# Altium footprint library pcb_checked.PcbLib: 89 footprints (part 1 of 6)
Each footprint in its own frame and in the unit in brackets; x right, y up, seen from the top. Pads: shape width x height; smd on the part's side, far side on the other; paste and mask are expansions set on the pad; w line width, h text height; cw(c..) or ccw(c..) is an arc to the next point about the centre after c.
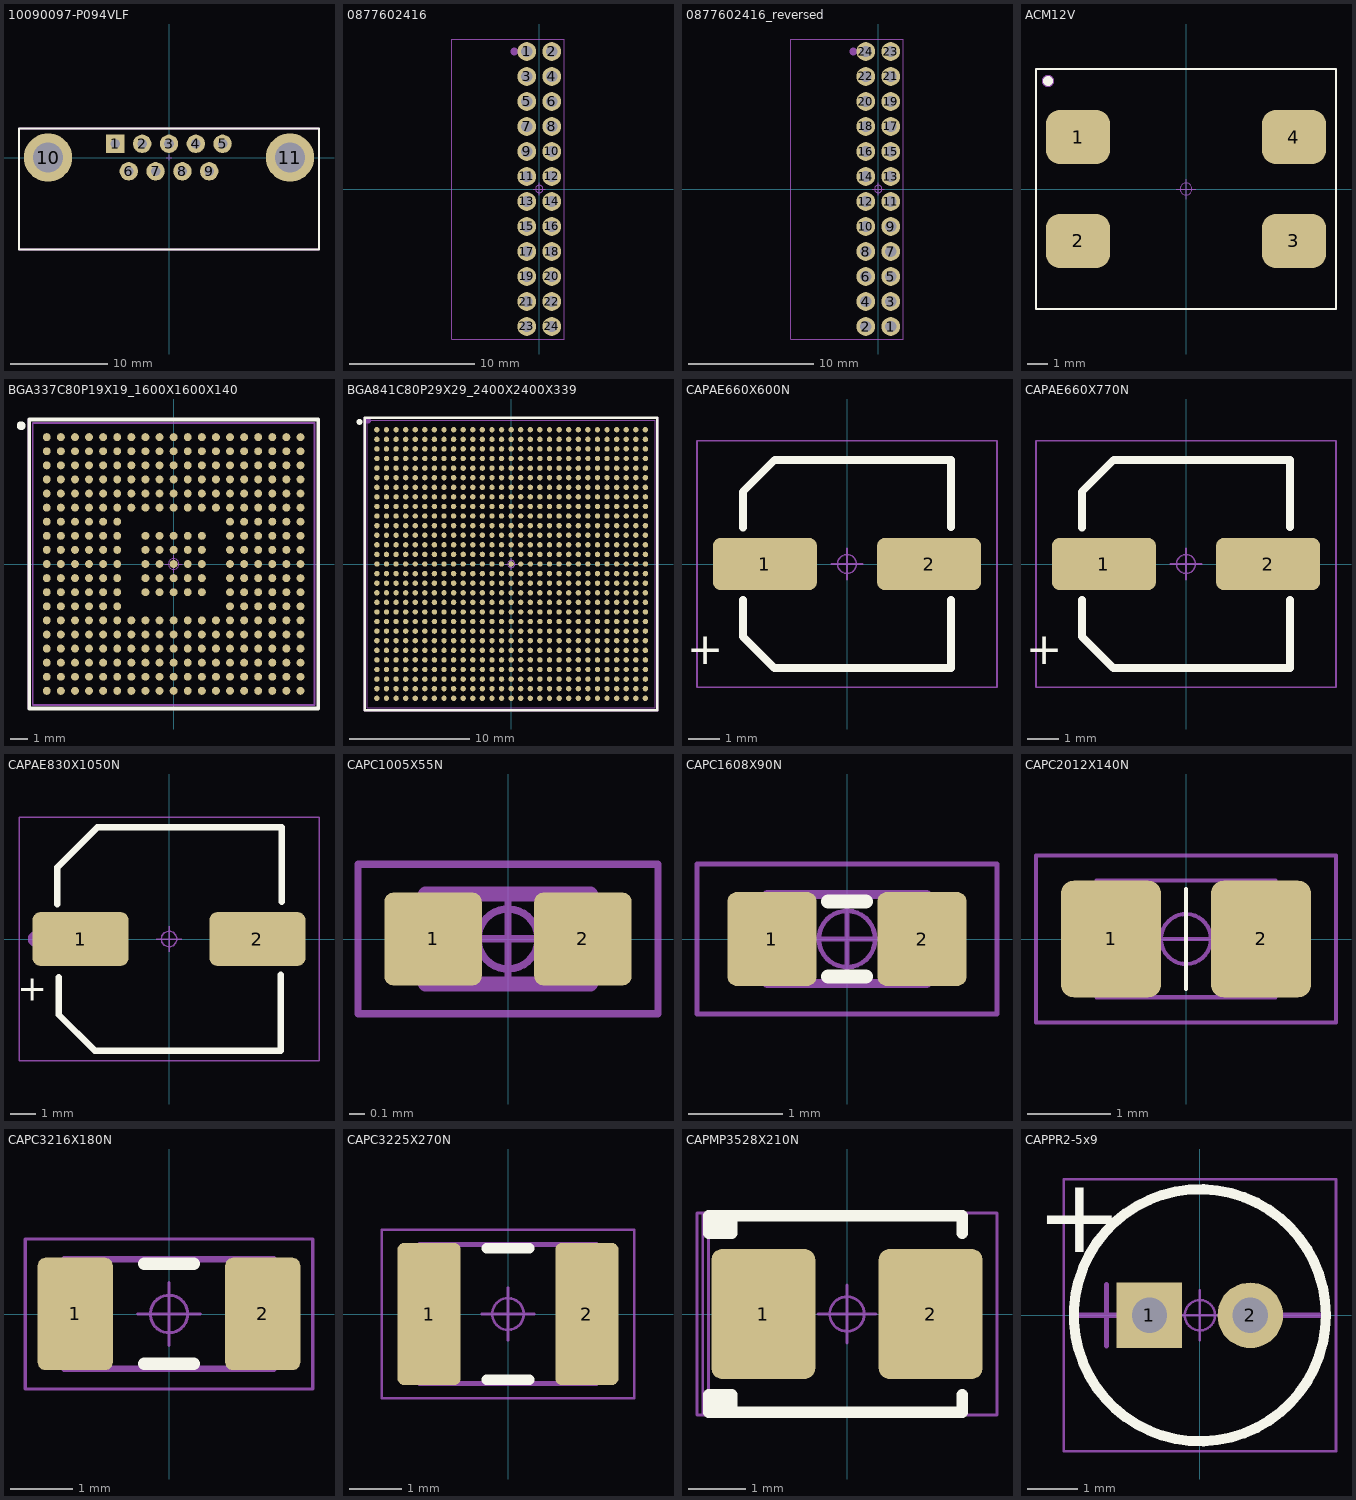
[diagram p0: the footprints below, top view; thin cyan lines are the x and y axes]

## 10090097-P094VLF [mm] "D-SUB 9 Right angle"
height 12.55
pads (11):
  rect 1.9x1.9 hole 1: 1(-5.54,1.42)
  round 1.9 hole 1: 2(-2.77,1.42) 3(0,1.42) 4(2.77,1.42) 5(5.54,1.42) 6(-4.155,-1.42) 7(-1.385,-1.42) 8(1.385,-1.42) 9(4.155,-1.42)
  round 5 hole 3.1: 10(-12.5,0) 11(12.5,0)
Top Overlay:
  lines w0.2: -15.5,-9.5 -15.5,3 15.5,3 15.5,-9.5 -15.5,-9.5
Mechanical 15:
  lines w0.1: -0.3,0 0.3,0 ; 0,-0.3 0,0.3
  lines w0.254: -15.5,-9.5 15.5,-9.5 15.5,3 -15.5,3 -15.5,-9.5
  text "pcb_edge" at -3.8,-10.6 h1.02
  text ".Designator" at -8.9,-5.3 h1.02
3D body "10090097-P09.stp": height 12.52, standoff -3.8, extent -15.42,-15.4 15.42,2.9

## 0877602416 [mm]
pads (24):
  round 1.5 hole 0.9 paste+0: 1(-1,11) 2(1,11) 3(-1,9) 4(1,9) 5(-1,7) 6(1,7) 7(-1,5) 8(1,5) 9(-1,3) 10(1,3) 11(-1,1) 12(1,1) 13(-1,-1) 14(1,-1) 15(-1,-3) 16(1,-3) 17(-1,-5) 18(1,-5) 19(-1,-7) 20(1,-7) 21(-1,-9) 22(1,-9) 23(-1,-11) 24(1,-11)
Mechanical 15:
  circle w0.05: c0,0 r0.3
  circle w0.406: c-2,11 r0.1
  lines w0.05: -0.5,0 0.5,0 ; 0,-0.5 0,0.5 ; -7,-12 -7,12 2,12 2,-12 -7,-12
  text ".Designator" at -6,-11 h1
3D body "877602416.stp": height 4.3, standoff -2.6, extent -6.45,-12 1.55,12

## 0877602416_reversed [mm]
pads (24):
  round 1.5 hole 0.9 paste+0: 1(1,-11) 2(-1,-11) 3(1,-9) 4(-1,-9) 5(1,-7) 6(-1,-7) 7(1,-5) 8(-1,-5) 9(1,-3) 10(-1,-3) 11(1,-1) 12(-1,-1) 13(1,1) 14(-1,1) 15(1,3) 16(-1,3) 17(1,5) 18(-1,5) 19(1,7) 20(-1,7) 21(1,9) 22(-1,9) 23(1,11) 24(-1,11)
Mechanical 15:
  circle w0.406: c-2,11 r0.1
  circle w0.05: c0,0 r0.3
  lines w0.05: -0.5,0 0.5,0 ; 0,-0.5 0,0.5 ; -7,-12 2,-12 2,12 -7,12 -7,-12
  text ".Designator" at -6,-11 h1
3D body "877602416.stp": height 4.3, standoff -2.6, extent -6.45,-12 1.55,12

## ACM12V [mm] "ACM12V"
height 6
pads (4):
  rrect50% 3.2x2.7 smd: 1(-5.4,2.6) 2(-5.4,-2.6) 3(5.4,-2.6) 4(5.4,2.6)
Top Overlay:
  circle w0.25: c-6.9,5.4 r0.125
  lines w0.1: -7.5,-6 7.5,-6 7.5,6 -7.5,6 -7.5,-6
Mechanical 15:
  circle w0.406: c-6.9,5.4 r0.1
  circle w0.05: c0,0 r0.3
  lines w0.05: -0.5,0 0.5,0 ; 0,-0.5 0,0.5 ; -7.5,-6 7.5,-6 7.5,6 -7.5,6 -7.5,-6
  text ".Designator" at -7.1,-5.6 h1
3D body: height 6, standoff 0, extent -6.15,-5.65 6.15,5.65

## BGA337C80P19X19_1600X1600X140 [mm] "BGA, 337-Leads, Body 16.00x16.00mmx1.40mm, Pitch 0.80mm"
height 1.4
pads (337):
  round 0.45 smd paste+0 mask+0.06: A1(-7.2,7.2) A2(-6.4,7.2) A3(-5.6,7.2) A4(-4.8,7.2) A5(-4,7.2) A6(-3.2,7.2) A7(-2.4,7.2) A8(-1.6,7.2) A9(-0.8,7.2) A10(0,7.2) A11(0.8,7.2) A12(1.6,7.2) A13(2.4,7.2) A14(3.2,7.2) A15(4,7.2) A16(4.8,7.2) A17(5.6,7.2) A18(6.4,7.2) A19(7.2,7.2) B1(-7.2,6.4) B2(-6.4,6.4) B3(-5.6,6.4) B4(-4.8,6.4) B5(-4,6.4) B6(-3.2,6.4) B7(-2.4,6.4) B8(-1.6,6.4) B9(-0.8,6.4) B10(0,6.4) B11(0.8,6.4) B12(1.6,6.4) B13(2.4,6.4) B14(3.2,6.4) B15(4,6.4) B16(4.8,6.4) B17(5.6,6.4) B18(6.4,6.4) B19(7.2,6.4) C1(-7.2,5.6) C2(-6.4,5.6) C3(-5.6,5.6) C4(-4.8,5.6) C5(-4,5.6) C6(-3.2,5.6) C7(-2.4,5.6) C8(-1.6,5.6) C9(-0.8,5.6) C10(0,5.6) C11(0.8,5.6) C12(1.6,5.6) C13(2.4,5.6) C14(3.2,5.6) C15(4,5.6) C16(4.8,5.6) C17(5.6,5.6) C18(6.4,5.6) C19(7.2,5.6) D1(-7.2,4.8) D2(-6.4,4.8) D3(-5.6,4.8) D4(-4.8,4.8) D5(-4,4.8) D6(-3.2,4.8) D7(-2.4,4.8) D8(-1.6,4.8) D9(-0.8,4.8) D10(0,4.8) D11(0.8,4.8) D12(1.6,4.8) D13(2.4,4.8) D14(3.2,4.8) D15(4,4.8) D16(4.8,4.8) D17(5.6,4.8) D18(6.4,4.8) D19(7.2,4.8) E1(-7.2,4) E2(-6.4,4) E3(-5.6,4) E4(-4.8,4) E5(-4,4) E6(-3.2,4) E7(-2.4,4) E8(-1.6,4) E9(-0.8,4) E10(0,4) E11(0.8,4) E12(1.6,4) E13(2.4,4) E14(3.2,4) E15(4,4) E16(4.8,4) E17(5.6,4) E18(6.4,4) E19(7.2,4) F1(-7.2,3.2) F2(-6.4,3.2) F3(-5.6,3.2) F4(-4.8,3.2) F5(-4,3.2) F6(-3.2,3.2) F7(-2.4,3.2) F8(-1.6,3.2) F9(-0.8,3.2) F10(0,3.2) F11(0.8,3.2) F12(1.6,3.2) F13(2.4,3.2) F14(3.2,3.2) F15(4,3.2) F16(4.8,3.2) F17(5.6,3.2) F18(6.4,3.2) F19(7.2,3.2) G1(-7.2,2.4) G2(-6.4,2.4) G3(-5.6,2.4) G4(-4.8,2.4) G5(-4,2.4) G6(-3.2,2.4) G14(3.2,2.4) G15(4,2.4) G16(4.8,2.4) G17(5.6,2.4) G18(6.4,2.4) G19(7.2,2.4) H1(-7.2,1.6) H2(-6.4,1.6) H3(-5.6,1.6) H4(-4.8,1.6) H5(-4,1.6) H6(-3.2,1.6) H8(-1.6,1.6) H9(-0.8,1.6) H10(0,1.6) H11(0.8,1.6) H12(1.6,1.6) H14(3.2,1.6) H15(4,1.6) H16(4.8,1.6) H17(5.6,1.6) H18(6.4,1.6) H19(7.2,1.6) J1(-7.2,0.8) J2(-6.4,0.8) J3(-5.6,0.8) J4(-4.8,0.8) J5(-4,0.8) J6(-3.2,0.8) J8(-1.6,0.8) J9(-0.8,0.8) J10(0,0.8) J11(0.8,0.8) J12(1.6,0.8) J14(3.2,0.8) J15(4,0.8) J16(4.8,0.8) J17(5.6,0.8) J18(6.4,0.8) J19(7.2,0.8) K1(-7.2,0) K2(-6.4,0) K3(-5.6,0) K4(-4.8,0) K5(-4,0) K6(-3.2,0) K8(-1.6,0) K9(-0.8,0) K10(0,0) K11(0.8,0) K12(1.6,0) K14(3.2,0) K15(4,0) K16(4.8,0) K17(5.6,0) K18(6.4,0) K19(7.2,0) L1(-7.2,-0.8) L2(-6.4,-0.8) L3(-5.6,-0.8) L4(-4.8,-0.8) L5(-4,-0.8) L6(-3.2,-0.8) L8(-1.6,-0.8) L9(-0.8,-0.8) L10(0,-0.8) L11(0.8,-0.8) L12(1.6,-0.8) L14(3.2,-0.8) L15(4,-0.8) L16(4.8,-0.8) L17(5.6,-0.8) L18(6.4,-0.8) L19(7.2,-0.8) M1(-7.2,-1.6) M2(-6.4,-1.6) M3(-5.6,-1.6) M4(-4.8,-1.6) M5(-4,-1.6) M6(-3.2,-1.6) M8(-1.6,-1.6) M9(-0.8,-1.6) M10(0,-1.6) M11(0.8,-1.6) M12(1.6,-1.6) M14(3.2,-1.6) M15(4,-1.6) M16(4.8,-1.6) M17(5.6,-1.6) M18(6.4,-1.6) M19(7.2,-1.6) N1(-7.2,-2.4) N2(-6.4,-2.4) N3(-5.6,-2.4) N4(-4.8,-2.4) N5(-4,-2.4) N6(-3.2,-2.4) N14(3.2,-2.4) N15(4,-2.4) N16(4.8,-2.4) N17(5.6,-2.4) N18(6.4,-2.4) N19(7.2,-2.4) P1(-7.2,-3.2) P2(-6.4,-3.2) P3(-5.6,-3.2) P4(-4.8,-3.2) P5(-4,-3.2) P6(-3.2,-3.2) P7(-2.4,-3.2) P8(-1.6,-3.2) P9(-0.8,-3.2) P10(0,-3.2) P11(0.8,-3.2) P12(1.6,-3.2) P13(2.4,-3.2) P14(3.2,-3.2) P15(4,-3.2) P16(4.8,-3.2) P17(5.6,-3.2) P18(6.4,-3.2) P19(7.2,-3.2) R1(-7.2,-4) R2(-6.4,-4) R3(-5.6,-4) R4(-4.8,-4) R5(-4,-4) R6(-3.2,-4) R7(-2.4,-4) R8(-1.6,-4) R9(-0.8,-4) R10(0,-4) R11(0.8,-4) R12(1.6,-4) R13(2.4,-4) R14(3.2,-4) R15(4,-4) R16(4.8,-4) R17(5.6,-4) R18(6.4,-4) R19(7.2,-4) T1(-7.2,-4.8) T2(-6.4,-4.8) T3(-5.6,-4.8) T4(-4.8,-4.8) T5(-4,-4.8) T6(-3.2,-4.8) T7(-2.4,-4.8) T8(-1.6,-4.8) T9(-0.8,-4.8) T10(0,-4.8) T11(0.8,-4.8) T12(1.6,-4.8) T13(2.4,-4.8) T14(3.2,-4.8) T15(4,-4.8) T16(4.8,-4.8) T17(5.6,-4.8) T18(6.4,-4.8) T19(7.2,-4.8) U1(-7.2,-5.6) U2(-6.4,-5.6) U3(-5.6,-5.6) U4(-4.8,-5.6) U5(-4,-5.6) U6(-3.2,-5.6) U7(-2.4,-5.6) U8(-1.6,-5.6) U9(-0.8,-5.6) U10(0,-5.6) U11(0.8,-5.6) U12(1.6,-5.6) U13(2.4,-5.6) U14(3.2,-5.6) U15(4,-5.6) U16(4.8,-5.6) U17(5.6,-5.6) U18(6.4,-5.6) U19(7.2,-5.6) V1(-7.2,-6.4) V2(-6.4,-6.4) V3(-5.6,-6.4) V4(-4.8,-6.4) V5(-4,-6.4) V6(-3.2,-6.4) V7(-2.4,-6.4) V8(-1.6,-6.4) V9(-0.8,-6.4) V10(0,-6.4) V11(0.8,-6.4) V12(1.6,-6.4) V13(2.4,-6.4) V14(3.2,-6.4) V15(4,-6.4) V16(4.8,-6.4) V17(5.6,-6.4) V18(6.4,-6.4) V19(7.2,-6.4) W1(-7.2,-7.2) W2(-6.4,-7.2) W3(-5.6,-7.2) W4(-4.8,-7.2) W5(-4,-7.2) W6(-3.2,-7.2) W7(-2.4,-7.2) W8(-1.6,-7.2) W9(-0.8,-7.2) W10(0,-7.2) W11(0.8,-7.2) W12(1.6,-7.2) W13(2.4,-7.2) W14(3.2,-7.2) W15(4,-7.2) W16(4.8,-7.2) W17(5.6,-7.2) W18(6.4,-7.2) W19(7.2,-7.2)
Top Overlay:
  circle w0.25: c-8.65,7.85 r0.125
  lines w0.2: -8.2,-8.2 8.2,-8.2 8.2,8.2 -8.2,8.2 -8.2,-8.2
Mechanical 13:
  lines w0.1: -8,-8 8,-8 8,8 -8,8 -8,-8
Mechanical 15:
  circle w0.05: c0,0 r0.3
  lines w0.05: -0.5,0 0.5,0 ; 0,-0.5 0,0.5 ; -8.25,-8.25 8.25,-8.25 8.25,8.25 -8.25,8.25 -8.25,-8.25
  text ".Designator" at -7.8,-7.75 h1
3D body: height 1.4, standoff 0.3, extent -8,-8 8,8

## BGA841C80P29X29_2400X2400X339 [mm] "BGA, 841-Leads, Body 24.00x24.00mmx3.39mm, Pitch 0.80mm"
height 3.39
pads (841):
  round 0.45 smd paste+0 mask+0.06: A1(-11.2,11.2) A2(-10.4,11.2) A3(-9.6,11.2) A4(-8.8,11.2) A5(-8,11.2) A6(-7.2,11.2) A7(-6.4,11.2) A8(-5.6,11.2) A9(-4.8,11.2) A10(-4,11.2) A11(-3.2,11.2) A12(-2.4,11.2) A13(-1.6,11.2) A14(-0.8,11.2) A15(0,11.2) A16(0.8,11.2) A17(1.6,11.2) A18(2.4,11.2) A19(3.2,11.2) A20(4,11.2) A21(4.8,11.2) A22(5.6,11.2) A23(6.4,11.2) A24(7.2,11.2) A25(8,11.2) A26(8.8,11.2) A27(9.6,11.2) A28(10.4,11.2) A29(11.2,11.2) AA1(-11.2,-4.8) AA2(-10.4,-4.8) AA3(-9.6,-4.8) AA4(-8.8,-4.8) AA5(-8,-4.8) AA6(-7.2,-4.8) AA7(-6.4,-4.8) AA8(-5.6,-4.8) AA9(-4.8,-4.8) AA10(-4,-4.8) AA11(-3.2,-4.8) AA12(-2.4,-4.8) AA13(-1.6,-4.8) AA14(-0.8,-4.8) AA15(0,-4.8) AA16(0.8,-4.8) AA17(1.6,-4.8) AA18(2.4,-4.8) AA19(3.2,-4.8) AA20(4,-4.8) AA21(4.8,-4.8) AA22(5.6,-4.8) AA23(6.4,-4.8) AA24(7.2,-4.8) AA25(8,-4.8) AA26(8.8,-4.8) AA27(9.6,-4.8) AA28(10.4,-4.8) AA29(11.2,-4.8) AB1(-11.2,-5.6) AB2(-10.4,-5.6) AB3(-9.6,-5.6) AB4(-8.8,-5.6) AB5(-8,-5.6) AB6(-7.2,-5.6) AB7(-6.4,-5.6) AB8(-5.6,-5.6) AB9(-4.8,-5.6) AB10(-4,-5.6) AB11(-3.2,-5.6) AB12(-2.4,-5.6) AB13(-1.6,-5.6) AB14(-0.8,-5.6) AB15(0,-5.6) AB16(0.8,-5.6) AB17(1.6,-5.6) AB18(2.4,-5.6) AB19(3.2,-5.6) AB20(4,-5.6) AB21(4.8,-5.6) AB22(5.6,-5.6) AB23(6.4,-5.6) AB24(7.2,-5.6) AB25(8,-5.6) AB26(8.8,-5.6) AB27(9.6,-5.6) AB28(10.4,-5.6) AB29(11.2,-5.6) AC1(-11.2,-6.4) AC2(-10.4,-6.4) AC3(-9.6,-6.4) AC4(-8.8,-6.4) AC5(-8,-6.4) AC6(-7.2,-6.4) AC7(-6.4,-6.4) AC8(-5.6,-6.4) AC9(-4.8,-6.4) AC10(-4,-6.4) AC11(-3.2,-6.4) AC12(-2.4,-6.4) AC13(-1.6,-6.4) AC14(-0.8,-6.4) AC15(0,-6.4) AC16(0.8,-6.4) AC17(1.6,-6.4) AC18(2.4,-6.4) AC19(3.2,-6.4) AC20(4,-6.4) AC21(4.8,-6.4) AC22(5.6,-6.4) AC23(6.4,-6.4) AC24(7.2,-6.4) AC25(8,-6.4) AC26(8.8,-6.4) AC27(9.6,-6.4) AC28(10.4,-6.4) AC29(11.2,-6.4) AD1(-11.2,-7.2) AD2(-10.4,-7.2) AD3(-9.6,-7.2) AD4(-8.8,-7.2) AD5(-8,-7.2) AD6(-7.2,-7.2) AD7(-6.4,-7.2) AD8(-5.6,-7.2) AD9(-4.8,-7.2) AD10(-4,-7.2) AD11(-3.2,-7.2) AD12(-2.4,-7.2) AD13(-1.6,-7.2) AD14(-0.8,-7.2) AD15(0,-7.2) AD16(0.8,-7.2) AD17(1.6,-7.2) AD18(2.4,-7.2) AD19(3.2,-7.2) AD20(4,-7.2) AD21(4.8,-7.2) AD22(5.6,-7.2) AD23(6.4,-7.2) AD24(7.2,-7.2) AD25(8,-7.2) AD26(8.8,-7.2) AD27(9.6,-7.2) AD28(10.4,-7.2) AD29(11.2,-7.2) AE1(-11.2,-8) AE2(-10.4,-8) AE3(-9.6,-8) AE4(-8.8,-8) AE5(-8,-8) AE6(-7.2,-8) AE7(-6.4,-8) AE8(-5.6,-8) AE9(-4.8,-8) AE10(-4,-8) AE11(-3.2,-8) AE12(-2.4,-8) AE13(-1.6,-8) AE14(-0.8,-8) AE15(0,-8) AE16(0.8,-8) AE17(1.6,-8) AE18(2.4,-8) AE19(3.2,-8) AE20(4,-8) AE21(4.8,-8) AE22(5.6,-8) AE23(6.4,-8) AE24(7.2,-8) AE25(8,-8) AE26(8.8,-8) AE27(9.6,-8) AE28(10.4,-8) AE29(11.2,-8) AF1(-11.2,-8.8) AF2(-10.4,-8.8) AF3(-9.6,-8.8) AF4(-8.8,-8.8) AF5(-8,-8.8) AF6(-7.2,-8.8) AF7(-6.4,-8.8) AF8(-5.6,-8.8) AF9(-4.8,-8.8) AF10(-4,-8.8) AF11(-3.2,-8.8) AF12(-2.4,-8.8) AF13(-1.6,-8.8) AF14(-0.8,-8.8) AF15(0,-8.8) AF16(0.8,-8.8) AF17(1.6,-8.8) AF18(2.4,-8.8) AF19(3.2,-8.8) AF20(4,-8.8) AF21(4.8,-8.8) AF22(5.6,-8.8) AF23(6.4,-8.8) AF24(7.2,-8.8) AF25(8,-8.8) AF26(8.8,-8.8) AF27(9.6,-8.8) AF28(10.4,-8.8) AF29(11.2,-8.8) AG1(-11.2,-9.6) AG2(-10.4,-9.6) AG3(-9.6,-9.6) AG4(-8.8,-9.6) AG5(-8,-9.6) AG6(-7.2,-9.6) AG7(-6.4,-9.6) AG8(-5.6,-9.6) AG9(-4.8,-9.6) AG10(-4,-9.6) AG11(-3.2,-9.6) AG12(-2.4,-9.6) AG13(-1.6,-9.6) AG14(-0.8,-9.6) AG15(0,-9.6) AG16(0.8,-9.6) AG17(1.6,-9.6) AG18(2.4,-9.6) AG19(3.2,-9.6) AG20(4,-9.6) AG21(4.8,-9.6) AG22(5.6,-9.6) AG23(6.4,-9.6) AG24(7.2,-9.6) AG25(8,-9.6) AG26(8.8,-9.6) AG27(9.6,-9.6) AG28(10.4,-9.6) AG29(11.2,-9.6) AH1(-11.2,-10.4) AH2(-10.4,-10.4) AH3(-9.6,-10.4) AH4(-8.8,-10.4) AH5(-8,-10.4) AH6(-7.2,-10.4) AH7(-6.4,-10.4) AH8(-5.6,-10.4) AH9(-4.8,-10.4) AH10(-4,-10.4) AH11(-3.2,-10.4) AH12(-2.4,-10.4) AH13(-1.6,-10.4) AH14(-0.8,-10.4) AH15(0,-10.4) AH16(0.8,-10.4) AH17(1.6,-10.4) AH18(2.4,-10.4) AH19(3.2,-10.4) AH20(4,-10.4) AH21(4.8,-10.4) AH22(5.6,-10.4) AH23(6.4,-10.4) AH24(7.2,-10.4) AH25(8,-10.4) AH26(8.8,-10.4) AH27(9.6,-10.4) AH28(10.4,-10.4) AH29(11.2,-10.4) AJ1(-11.2,-11.2) AJ2(-10.4,-11.2) AJ3(-9.6,-11.2) AJ4(-8.8,-11.2) AJ5(-8,-11.2) AJ6(-7.2,-11.2) AJ7(-6.4,-11.2) AJ8(-5.6,-11.2) AJ9(-4.8,-11.2) AJ10(-4,-11.2) AJ11(-3.2,-11.2) AJ12(-2.4,-11.2) AJ13(-1.6,-11.2) AJ14(-0.8,-11.2) AJ15(0,-11.2) AJ16(0.8,-11.2) AJ17(1.6,-11.2) AJ18(2.4,-11.2) AJ19(3.2,-11.2) AJ20(4,-11.2) AJ21(4.8,-11.2) AJ22(5.6,-11.2) AJ23(6.4,-11.2) AJ24(7.2,-11.2) AJ25(8,-11.2) AJ26(8.8,-11.2) AJ27(9.6,-11.2) AJ28(10.4,-11.2) AJ29(11.2,-11.2) B1(-11.2,10.4) B2(-10.4,10.4) B3(-9.6,10.4) B4(-8.8,10.4) B5(-8,10.4) B6(-7.2,10.4) B7(-6.4,10.4) B8(-5.6,10.4) B9(-4.8,10.4) B10(-4,10.4) B11(-3.2,10.4) B12(-2.4,10.4) B13(-1.6,10.4) B14(-0.8,10.4) B15(0,10.4) B16(0.8,10.4) B17(1.6,10.4) B18(2.4,10.4) B19(3.2,10.4) B20(4,10.4) B21(4.8,10.4) B22(5.6,10.4) B23(6.4,10.4) B24(7.2,10.4) B25(8,10.4) B26(8.8,10.4) B27(9.6,10.4) B28(10.4,10.4) B29(11.2,10.4) C1(-11.2,9.6) C2(-10.4,9.6) C3(-9.6,9.6) C4(-8.8,9.6) C5(-8,9.6) C6(-7.2,9.6) C7(-6.4,9.6) C8(-5.6,9.6) C9(-4.8,9.6) C10(-4,9.6) C11(-3.2,9.6) C12(-2.4,9.6) C13(-1.6,9.6) C14(-0.8,9.6) C15(0,9.6) C16(0.8,9.6) C17(1.6,9.6) C18(2.4,9.6) C19(3.2,9.6) C20(4,9.6) C21(4.8,9.6) C22(5.6,9.6) C23(6.4,9.6) C24(7.2,9.6) C25(8,9.6) C26(8.8,9.6) C27(9.6,9.6) C28(10.4,9.6) C29(11.2,9.6) D1(-11.2,8.8) D2(-10.4,8.8) D3(-9.6,8.8) D4(-8.8,8.8) D5(-8,8.8) D6(-7.2,8.8) D7(-6.4,8.8) D8(-5.6,8.8) D9(-4.8,8.8) D10(-4,8.8) D11(-3.2,8.8) D12(-2.4,8.8) D13(-1.6,8.8) D14(-0.8,8.8) D15(0,8.8) D16(0.8,8.8) D17(1.6,8.8) D18(2.4,8.8) D19(3.2,8.8) D20(4,8.8) D21(4.8,8.8) D22(5.6,8.8) D23(6.4,8.8) D24(7.2,8.8) D25(8,8.8) D26(8.8,8.8) D27(9.6,8.8) D28(10.4,8.8) D29(11.2,8.8) E1(-11.2,8) E2(-10.4,8) E3(-9.6,8) E4(-8.8,8) E5(-8,8) E6(-7.2,8) E7(-6.4,8) E8(-5.6,8) E9(-4.8,8) E10(-4,8) E11(-3.2,8) E12(-2.4,8) E13(-1.6,8) E14(-0.8,8) E15(0,8) E16(0.8,8) E17(1.6,8) E18(2.4,8) E19(3.2,8) E20(4,8) E21(4.8,8) E22(5.6,8) E23(6.4,8) E24(7.2,8) E25(8,8) E26(8.8,8) E27(9.6,8) E28(10.4,8) E29(11.2,8) F1(-11.2,7.2) F2(-10.4,7.2) F3(-9.6,7.2) F4(-8.8,7.2) F5(-8,7.2) F6(-7.2,7.2) F7(-6.4,7.2) F8(-5.6,7.2) F9(-4.8,7.2) F10(-4,7.2) F11(-3.2,7.2) F12(-2.4,7.2) F13(-1.6,7.2) F14(-0.8,7.2) F15(0,7.2) F16(0.8,7.2) F17(1.6,7.2) F18(2.4,7.2) F19(3.2,7.2) F20(4,7.2) F21(4.8,7.2) F22(5.6,7.2) F23(6.4,7.2) F24(7.2,7.2) F25(8,7.2) F26(8.8,7.2) F27(9.6,7.2) F28(10.4,7.2) F29(11.2,7.2) G1(-11.2,6.4) G2(-10.4,6.4) G3(-9.6,6.4) G4(-8.8,6.4) G5(-8,6.4) G6(-7.2,6.4) G7(-6.4,6.4) G8(-5.6,6.4) G9(-4.8,6.4) G10(-4,6.4) G11(-3.2,6.4) G12(-2.4,6.4) G13(-1.6,6.4) G14(-0.8,6.4) G15(0,6.4) G16(0.8,6.4) G17(1.6,6.4) G18(2.4,6.4) G19(3.2,6.4) G20(4,6.4) G21(4.8,6.4) G22(5.6,6.4) G23(6.4,6.4) G24(7.2,6.4) G25(8,6.4) G26(8.8,6.4) G27(9.6,6.4) G28(10.4,6.4) G29(11.2,6.4) H1(-11.2,5.6) H2(-10.4,5.6) H3(-9.6,5.6) H4(-8.8,5.6) H5(-8,5.6) H6(-7.2,5.6) H7(-6.4,5.6) H8(-5.6,5.6) H9(-4.8,5.6) H10(-4,5.6) H11(-3.2,5.6) H12(-2.4,5.6) H13(-1.6,5.6) H14(-0.8,5.6) H15(0,5.6) H16(0.8,5.6) H17(1.6,5.6) H18(2.4,5.6) H19(3.2,5.6) H20(4,5.6) H21(4.8,5.6) H22(5.6,5.6) H23(6.4,5.6) H24(7.2,5.6) H25(8,5.6) H26(8.8,5.6) H27(9.6,5.6) H28(10.4,5.6) H29(11.2,5.6) J1(-11.2,4.8) J2(-10.4,4.8) J3(-9.6,4.8) J4(-8.8,4.8) J5(-8,4.8) J6(-7.2,4.8) J7(-6.4,4.8) J8(-5.6,4.8) J9(-4.8,4.8) J10(-4,4.8) J11(-3.2,4.8) J12(-2.4,4.8) J13(-1.6,4.8) J14(-0.8,4.8) J15(0,4.8) J16(0.8,4.8) J17(1.6,4.8) J18(2.4,4.8) J19(3.2,4.8) J20(4,4.8) J21(4.8,4.8) J22(5.6,4.8) J23(6.4,4.8) J24(7.2,4.8) J25(8,4.8) J26(8.8,4.8) J27(9.6,4.8) J28(10.4,4.8) J29(11.2,4.8) K1(-11.2,4) K2(-10.4,4) K3(-9.6,4) K4(-8.8,4) K5(-8,4) K6(-7.2,4) K7(-6.4,4) K8(-5.6,4) K9(-4.8,4) K10(-4,4) K11(-3.2,4) K12(-2.4,4) K13(-1.6,4) K14(-0.8,4) K15(0,4) K16(0.8,4) K17(1.6,4) K18(2.4,4) K19(3.2,4) K20(4,4) K21(4.8,4) K22(5.6,4) K23(6.4,4) K24(7.2,4) K25(8,4) K26(8.8,4) K27(9.6,4) K28(10.4,4) K29(11.2,4) L1(-11.2,3.2) L2(-10.4,3.2) L3(-9.6,3.2) L4(-8.8,3.2) L5(-8,3.2) L6(-7.2,3.2) L7(-6.4,3.2) L8(-5.6,3.2) L9(-4.8,3.2) L10(-4,3.2) L11(-3.2,3.2) L12(-2.4,3.2) L13(-1.6,3.2) L14(-0.8,3.2) L15(0,3.2) L16(0.8,3.2) L17(1.6,3.2) L18(2.4,3.2) L19(3.2,3.2) L20(4,3.2) L21(4.8,3.2) L22(5.6,3.2) L23(6.4,3.2) L24(7.2,3.2) L25(8,3.2) L26(8.8,3.2) L27(9.6,3.2) L28(10.4,3.2) L29(11.2,3.2) M1(-11.2,2.4) M2(-10.4,2.4) M3(-9.6,2.4) M4(-8.8,2.4) M5(-8,2.4) M6(-7.2,2.4) M7(-6.4,2.4) M8(-5.6,2.4) M9(-4.8,2.4) M10(-4,2.4) M11(-3.2,2.4) M12(-2.4,2.4) M13(-1.6,2.4) M14(-0.8,2.4) M15(0,2.4) M16(0.8,2.4) M17(1.6,2.4) M18(2.4,2.4) M19(3.2,2.4) M20(4,2.4) M21(4.8,2.4) M22(5.6,2.4) M23(6.4,2.4) M24(7.2,2.4) M25(8,2.4) M26(8.8,2.4) M27(9.6,2.4) M28(10.4,2.4) M29(11.2,2.4) N1(-11.2,1.6) N2(-10.4,1.6) N3(-9.6,1.6) N4(-8.8,1.6) N5(-8,1.6) N6(-7.2,1.6) N7(-6.4,1.6) N8(-5.6,1.6) N9(-4.8,1.6) N10(-4,1.6) N11(-3.2,1.6) N12(-2.4,1.6) N13(-1.6,1.6) N14(-0.8,1.6) N15(0,1.6) N16(0.8,1.6) N17(1.6,1.6) N18(2.4,1.6) N19(3.2,1.6) N20(4,1.6) N21(4.8,1.6) N22(5.6,1.6) N23(6.4,1.6) N24(7.2,1.6) N25(8,1.6) N26(8.8,1.6) N27(9.6,1.6) N28(10.4,1.6) N29(11.2,1.6) P1(-11.2,0.8) P2(-10.4,0.8) P3(-9.6,0.8) P4(-8.8,0.8) P5(-8,0.8) P6(-7.2,0.8) P7(-6.4,0.8) P8(-5.6,0.8) P9(-4.8,0.8) P10(-4,0.8) P11(-3.2,0.8) P12(-2.4,0.8) P13(-1.6,0.8) P14(-0.8,0.8) P15(0,0.8) P16(0.8,0.8) P17(1.6,0.8) P18(2.4,0.8) P19(3.2,0.8) P20(4,0.8) P21(4.8,0.8) P22(5.6,0.8) P23(6.4,0.8) P24(7.2,0.8) P25(8,0.8) P26(8.8,0.8) P27(9.6,0.8) P28(10.4,0.8) P29(11.2,0.8) R1(-11.2,0) R2(-10.4,0) R3(-9.6,0) R4(-8.8,0) R5(-8,0) R6(-7.2,0) R7(-6.4,0) R8(-5.6,0) R9(-4.8,0) R10(-4,0) R11(-3.2,0) R12(-2.4,0) R13(-1.6,0) R14(-0.8,0) R15(0,0) R16(0.8,0) R17(1.6,0) R18(2.4,0) R19(3.2,0) R20(4,0) R21(4.8,0) R22(5.6,0) R23(6.4,0) R24(7.2,0) R25(8,0) R26(8.8,0) R27(9.6,0) R28(10.4,0) R29(11.2,0) T1(-11.2,-0.8) T2(-10.4,-0.8) T3(-9.6,-0.8) T4(-8.8,-0.8) T5(-8,-0.8) T6(-7.2,-0.8) T7(-6.4,-0.8) T8(-5.6,-0.8) T9(-4.8,-0.8) T10(-4,-0.8) T11(-3.2,-0.8) T12(-2.4,-0.8) T13(-1.6,-0.8) T14(-0.8,-0.8) T15(0,-0.8) T16(0.8,-0.8) T17(1.6,-0.8) T18(2.4,-0.8) T19(3.2,-0.8) T20(4,-0.8) T21(4.8,-0.8) T22(5.6,-0.8) T23(6.4,-0.8) T24(7.2,-0.8) T25(8,-0.8) T26(8.8,-0.8) T27(9.6,-0.8) T28(10.4,-0.8) T29(11.2,-0.8) U1(-11.2,-1.6) U2(-10.4,-1.6) U3(-9.6,-1.6) U4(-8.8,-1.6) U5(-8,-1.6) U6(-7.2,-1.6) U7(-6.4,-1.6) U8(-5.6,-1.6) U9(-4.8,-1.6) U10(-4,-1.6) U11(-3.2,-1.6) U12(-2.4,-1.6) U13(-1.6,-1.6) U14(-0.8,-1.6) U15(0,-1.6) U16(0.8,-1.6) U17(1.6,-1.6) U18(2.4,-1.6) U19(3.2,-1.6) U20(4,-1.6) U21(4.8,-1.6) U22(5.6,-1.6) U23(6.4,-1.6) U24(7.2,-1.6) U25(8,-1.6) U26(8.8,-1.6) U27(9.6,-1.6) U28(10.4,-1.6) U29(11.2,-1.6) V1(-11.2,-2.4) V2(-10.4,-2.4) V3(-9.6,-2.4) V4(-8.8,-2.4) V5(-8,-2.4) V6(-7.2,-2.4) V7(-6.4,-2.4) V8(-5.6,-2.4) V9(-4.8,-2.4) V10(-4,-2.4) V11(-3.2,-2.4) V12(-2.4,-2.4) V13(-1.6,-2.4) V14(-0.8,-2.4) V15(0,-2.4) V16(0.8,-2.4) V17(1.6,-2.4) V18(2.4,-2.4) V19(3.2,-2.4) V20(4,-2.4) V21(4.8,-2.4) V22(5.6,-2.4) V23(6.4,-2.4) V24(7.2,-2.4) V25(8,-2.4) V26(8.8,-2.4) V27(9.6,-2.4) V28(10.4,-2.4) V29(11.2,-2.4) W1(-11.2,-3.2) W2(-10.4,-3.2) W3(-9.6,-3.2) W4(-8.8,-3.2) W5(-8,-3.2) W6(-7.2,-3.2) W7(-6.4,-3.2) W8(-5.6,-3.2) W9(-4.8,-3.2) W10(-4,-3.2) W11(-3.2,-3.2) W12(-2.4,-3.2) W13(-1.6,-3.2) W14(-0.8,-3.2) W15(0,-3.2) W16(0.8,-3.2) W17(1.6,-3.2) W18(2.4,-3.2) W19(3.2,-3.2) W20(4,-3.2) W21(4.8,-3.2) W22(5.6,-3.2) W23(6.4,-3.2) W24(7.2,-3.2) W25(8,-3.2) W26(8.8,-3.2) W27(9.6,-3.2) W28(10.4,-3.2) W29(11.2,-3.2) Y1(-11.2,-4) Y2(-10.4,-4) Y3(-9.6,-4) Y4(-8.8,-4) Y5(-8,-4) Y6(-7.2,-4) Y7(-6.4,-4) Y8(-5.6,-4) Y9(-4.8,-4) Y10(-4,-4) Y11(-3.2,-4) Y12(-2.4,-4) Y13(-1.6,-4) Y14(-0.8,-4) Y15(0,-4) Y16(0.8,-4) Y17(1.6,-4) Y18(2.4,-4) Y19(3.2,-4) Y20(4,-4) Y21(4.8,-4) Y22(5.6,-4) Y23(6.4,-4) Y24(7.2,-4) Y25(8,-4) Y26(8.8,-4) Y27(9.6,-4) Y28(10.4,-4) Y29(11.2,-4)
Top Overlay:
  circle w0.25: c-12.65,11.85 r0.125
  lines w0.2: -12.2,-12.2 12.2,-12.2 12.2,12.2 -12.2,12.2 -12.2,-12.2
Mechanical 13:
  lines w0.1: -12,-12 12,-12 12,12 -12,12 -12,-12
Mechanical 15:
  circle w0.25: c-11.95,11.95 r0.125
  circle w0.05: c0,0 r0.3
  lines w0.05: -0.5,0 0.5,0 ; 0,-0.5 0,0.5 ; -12.25,-12.25 12.25,-12.25 12.25,12.25 -12.25,12.25 -12.25,-12.25
  text ".Designator" at -11.95,-11.8 h1
3D body: height 3.39, standoff 0.3, extent -12,-12 12,12

## CAPAE660X600N [mm] "Aluminium Electrolytic Capacitor, 6.6x6.6x6.0mm"
height 6
pads (2):
  rrect30% 3.3x1.65 smd: 1(-2.6,0) 2(2.6,0)
Top Overlay:
  lines w0.254: -3.3,-1.143 -3.3,-2.3 -2.3,-3.3 -2.286,-3.3 3.3,-3.3 3.3,-1.143 ; -3.3,1.15 -3.3,2.286 -2.286,3.3 3.3,3.3 3.3,1.175
  text "+" at -3.9,-2.3 h1.02
Mechanical 15:
  circle w0.406: c-3.65,0 r0.1
  circle w0.05: c0,0 r0.3
  lines w0.05: -0.5,0 0.5,0 ; 0,-0.5 0,0.5 ; -4.75,-3.9 -4.75,3.9 4.75,3.9 4.75,-3.9 -4.75,-3.9
  text ".Designator" at -4.35,-3.75 h1
3D body: height 1, standoff 0, extent -3.3,-3.3 3.3,3.3
3D body: height 6, standoff 1, extent -3.124,-3.147 3.176,3.147

## CAPAE660X770N [mm] "Aluminium Electrolytic Capacitor, 6.6x6.6x7.7mm"
height 7.7
pads (2):
  rrect30% 3.3x1.65 smd: 1(-2.6,0) 2(2.6,0)
Top Overlay:
  lines w0.254: -3.3,-1.143 -3.3,-2.3 -2.3,-3.3 -2.286,-3.3 3.3,-3.3 3.3,-1.143 ; -3.3,1.15 -3.3,2.286 -2.286,3.3 3.3,3.3 3.3,1.175
  text "+" at -3.9,-2.3 h1.02
Mechanical 15:
  circle w0.05: c0,0 r0.3
  circle w0.406: c-3.65,0 r0.1
  lines w0.05: -0.5,0 0.5,0 ; 0,-0.5 0,0.5 ; -4.75,-3.9 4.75,-3.9 4.75,3.9 -4.75,3.9 -4.75,-3.9
  text ".Designator" at -4.35,-3.75 h1
3D body: height 8.7, standoff 1, extent -3.124,-3.149 3.176,3.149
3D body: height 1, standoff 0, extent -3.3,-3.3 3.3,3.3

## CAPAE830X1050N [mm] "Aluminium Electrolytic Capacitor, 8.3x8.3x10.5mm"
height 10.5
pads (2):
  rrect30% 3.75x2.1 smd: 1(-3.45,0) 2(3.45,0)
Top Overlay:
  lines w0.254: -4.35,1.35 -4.35,2.8 -2.8,4.35 4.4,4.35 4.4,1.45 ; -4.3,-1.5 -4.3,-2.95 -2.9,-4.35 -1.236,-4.35 4.35,-4.35 4.35,-1.4
  text "+" at -4.75,-1.55 h1.02
Mechanical 15:
  circle w0.05: c0,0 r0.3
  circle w0.406: c-5.2,0 r0.1
  lines w0.05: -0.5,0 0.5,0 ; 0,-0.5 0,0.5 ; -5.85,-4.75 5.85,-4.75 5.85,4.75 -5.85,4.75 -5.85,-4.75
  text ".Designator" at -5.6,-4.45 h1
3D body: height 12.5, standoff 2, extent -3.974,-3.999 4.026,3.999
3D body: height 2, standoff 0, extent -4.15,-4.15 4.15,4.15

## CAPC1005X55N [mm] "Chip Capacitor, Body 1.1x0.5mm, IPC Medium Density"
height 0.4
pads (2):
  rrect20% 0.65x0.62 smd: 1(-0.5,0) 2(0.5,0)
Mechanical 13:
  lines w0.1: -0.55,-0.3 -0.55,0.3 0.55,0.3 0.55,-0.3 -0.55,-0.3
Mechanical 15:
  circle w0.05: c0,0 r0.2
  lines w0.05: -0.3,0 0.3,0 ; 0,-0.3 0,0.3 ; -1,-0.5 -1,0.5 1,0.5 1,-0.5 -1,-0.5
  text ".Designator" at -0.9,-0.4 h0.75
3D body: height 0.4, standoff 0, extent -0.55,-0.3 0.55,0.3

## CAPC1608X90N [mm] "Chip Capacitor, Body 1.6x0.8mm, IPC Medium Density"
height 0.9
pads (2):
  rrect20% 0.95x1 smd: 1(-0.8,0) 2(0.8,0)
Top Overlay:
  lines w0.15: -0.2,-0.4 0.2,-0.4 ; -0.2,0.4 0.2,0.4
Mechanical 13:
  lines w0.1: -0.85,-0.475 0.85,-0.475 0.85,0.475 -0.85,0.475 -0.85,-0.475
Mechanical 15:
  circle w0.05: c0,0 r0.3
  lines w0.05: -0.475,0 0.475,0 ; 0,-0.475 0,0.475 ; -1.6,-0.8 -1.6,0.8 1.6,0.8 1.6,-0.8 -1.6,-0.8
  text ".Designator" at -1.35,-0.6 h1
3D body: height 0.9, standoff 0, extent -0.85,-0.475 0.85,0.475

## CAPC2012X140N [mm] "Chip Resistor, Body 2.0x1.3mm, IPC Medium Density"
height 1.4
pads (2):
  rrect25% 1.2x1.4 smd: 1(-0.9,0) 2(0.9,0)
Top Overlay:
  lines w0.05: 0,-0.6 0,0.6
Mechanical 13:
  lines w0.05: -1.075,-0.7 -1.075,0.7 1.075,0.7 1.075,-0.7 -1.075,-0.7
Mechanical 15:
  circle w0.05: c0,0 r0.3
  lines w0.05: -0.5,0 0.5,0 ; 0,-0.5 0,0.5 ; -1.8,-1 -1.8,1 1.8,1 1.8,-1 -1.8,-1
  text ".Designator" at -1.6,-0.85 h1
3D body: height 1.4, standoff 0, extent -1.075,-0.7 1.075,0.7

## CAPC3216X180N [mm] "Chip Capacitor, Body 3.2x1.6mm, IPC Medium Density"
height 1.8
pads (2):
  rrect20% 1.2x1.8 smd: 1(-1.5,0) 2(1.5,0)
Top Overlay:
  lines w0.2: -0.4,-0.8 0.4,-0.8 ; -0.4,0.8 0.4,0.8
Mechanical 13:
  lines w0.1: -1.675,-0.875 -1.675,0.875 1.675,0.875 1.675,-0.875 -1.675,-0.875
Mechanical 15:
  circle w0.05: c0,0 r0.3
  lines w0.05: -0.5,0 0.5,0 ; 0,-0.5 0,0.5 ; -2.3,-1.2 -2.3,1.2 2.3,1.2 2.3,-1.2 -2.3,-1.2
  text ".Designator" at -2.25,-1.05 h1
3D body: height 1.8, standoff 0, extent -1.675,-0.875 1.675,0.875

## CAPC3225X270N [mm] "Chip Capacitor, Body 3.2x2.5mm, IPC Medium Density"
height 2.7
pads (2):
  rrect20% 1.2x2.7 smd: 1(-1.5,0) 2(1.5,0)
Top Overlay:
  lines w0.2: -0.4,-1.25 0.4,-1.25 ; -0.4,1.25 0.4,1.25
Mechanical 13:
  lines w0.1: -1.675,-1.32 1.675,-1.32 1.675,1.32 -1.675,1.32 -1.675,-1.32
Mechanical 15:
  circle w0.05: c0,0 r0.3
  lines w0.05: -0.5,0 0.5,0 ; 0,-0.5 0,0.5 ; -2.4,-1.6 2.4,-1.6 2.4,1.6 -2.4,1.6 -2.4,-1.6
  text ".Designator" at -2.2,-1.45 h1
3D body: height 2.7, standoff 0, extent -1.675,-1.32 1.675,1.32

## CAPMP3528X210N [mm] "Capacitor,polarized,Molded Body;3.50mm L X 2.80mm W X 2.10mm H"
height 2.1
pads (2):
  rrect20% 1.8x2.25 smd: 1(-1.45,0) 2(1.45,0)
Top Overlay:
  lines w0.2: -2.2,-1.4 -2.2,-1.7 ; -2.2,1.4 -2.2,1.7 ; 2,-1.4 2,-1.7 -2,-1.7 ; 2,1.4 2,1.7 -2,1.7 ; -2.2,-1.7 -2,-1.7 ; -2.2,-1.7 -2.4,-1.7 -2.4,-1.4 -2,-1.4 -2,-1.7 ; -2.2,1.7 -2,1.7 ; -2.2,1.7 -2.4,1.7 -2.4,1.4 -2,1.4 -2,1.7
Mechanical 15:
  circle w0.05: c0,0 r0.3
  lines w0.05: -2.5,-1.75 -2.5,1.75 ; -2.4,-1.75 -2.4,1.75 ; -0.5,0 0.5,0 ; 0,-0.5 0,0.5 ; -2.6,-1.75 -2.6,1.75 2.6,1.75 2.6,-1.75 -2.6,-1.75
  text ".Designator" at -2.05,-1.6 h1
3D body: height 2.1, standoff 0, extent -1.75,-1.538 1.75,1.537

## CAPPR2-5x9 [mm] "Capacitor, Electrolytic, Radial; Body 5 x 9 mm (Dia.xH typ); Pin Spacing 2 mm (typ)"
height 9
pads (2):
  rect 1.3x1.3 hole 0.7: 1(-1,0)
  round 1.3 hole 0.7: 2(1,0)
Top Overlay:
  circle w0.2: c0,0 r2.5
  text "+" at -3.25,1.25 h1.5
Mechanical 15:
  circle w0.05: c0,0 r0.3
  lines w0.05: -0.5,0 0.5,0 ; 0,-0.5 0,0.5 ; -2.7,-2.7 -2.7,2.7 2.7,2.7 2.7,-2.7 -2.7,-2.7
  lines w0.1: -2.458,0 -1.238,0 ; -1.848,-0.61 -1.848,0.61 ; 1.281,0 2.5,0
  text ".Designator" at -2.5,-2.5 h1
3D body: height 9, standoff 0, extent -2.51,-2.505 2.49,2.495